# Altium integrated library Wuerth Elektronik EMC Ferrite.IntLib: 193 symbols (part 2 of 3)
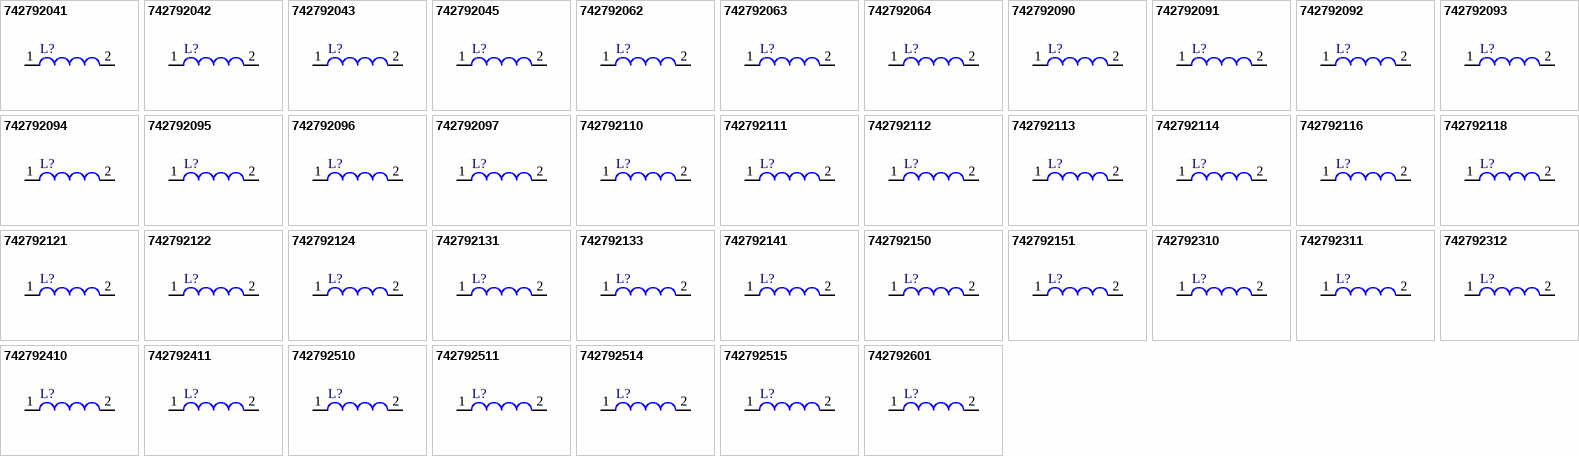
[diagram p5: symbols 742792041 to 742792601]

## 742792097
designator L?
SMD EMI Suppression Ferrite Bead WE-CBF, Z = 1500 Ohm; DatasheetVersion: Dec-2005; PackageVersion: 2005; PackageReference: SMD-0805; PackageDescription: Chip Inductor, 2-Leads, Body 2.0 x 1.2 mm; Impedance: 1500 Ohm; ComponentLink1Description: Manufacturer URL; ComponentLink1URL: http://www.we-online.com; ComponentLink2Description: Datasheet; ComponentLink2URL: http://www.we-online.de/katalog/media/pdf/742792097.pdf
footprint SMD-0805 (Chip Inductor, 2-Leads, Body 2.0x1.2x1.1 mm)
pins: 1, 2

## 742792110
designator L?
SMD EMI Suppression Ferrite Bead WE-CBF, Z = 19 Ohm; Impedance: 19 Ohm; DatasheetVersion: Dec-2005; PackageVersion: 2007; PackageReference: SMD-1206; PackageDescription: Chip Inductor, 2-Leads, Body 3.2 x 1.6 mm; ComponentLink1Description: Manufacturer URL; ComponentLink1URL: http://www.we-online.com; ComponentLink2Description: Datasheet; ComponentLink2URL: http://www.we-online.de/katalog/media/pdf/742792110.pdf
footprint SMD-1206 (Chip Inductor, 2-Leads, Body 3.2x1.6x1.3 mm)
pins: 1, 2

## 742792111
designator L?
SMD EMI Suppression Ferrite Bead WE-CBF, Z = 26 Ohm; Impedance: 26 Ohm; DatasheetVersion: Dec-2005; PackageVersion: 2007; PackageReference: SMD-1206; PackageDescription: Chip Inductor, 2-Leads, Body 3.2 x 1.6 mm; ComponentLink1Description: Manufacturer URL; ComponentLink1URL: http://www.we-online.com; ComponentLink2Description: Datasheet; ComponentLink2URL: http://www.we-online.de/katalog/media/pdf/742792111.pdf
footprint SMD-1206 (Chip Inductor, 2-Leads, Body 3.2x1.6x1.3 mm)
pins: 1, 2

## 742792112
designator L?
SMD EMI Suppression Ferrite Bead WE-CBF, Z = 31Ohm; DatasheetVersion: Dec-2005; PackageVersion: 2007; PackageReference: SMD-1206; PackageDescription: Chip Inductor, 2-Leads, Body 3.2 x 1.6 mm; Impedance: 31Ohm; ComponentLink1Description: Manufacturer URL; ComponentLink1URL: http://www.we-online.com; ComponentLink2Description: Datasheet; ComponentLink2URL: http://www.we-online.de/katalog/media/pdf/742792112.pdf
footprint SMD-1206 (Chip Inductor, 2-Leads, Body 3.2x1.6x1.3 mm)
pins: 1, 2

## 742792113
designator L?
SMD EMI Suppression Ferrite Bead WE-CBF, Z = 120 Ohm; Impedance: 120 Ohm; DatasheetVersion: Dec-2005; PackageVersion: 2007; PackageReference: SMD-1206; PackageDescription: Chip Inductor, 2-Leads, Body 3.2 x 1.6 mm; ComponentLink1Description: Manufacturer URL; ComponentLink1URL: http://www.we-online.com; ComponentLink2Description: Datasheet; ComponentLink2URL: http://www.we-online.de/katalog/media/pdf/742792113.pdf
footprint SMD-1206 (Chip Inductor, 2-Leads, Body 3.2x1.6x1.3 mm)
pins: 1, 2

## 742792114
designator L?
SMD EMI Suppression Ferrite Bead WE-CBF, Z = 50 Ohm; Impedance: 50 Ohm; DatasheetVersion: Dec-2005; PackageVersion: 2007; PackageReference: SMD-1206; PackageDescription: Chip Inductor, 2-Leads, Body 3.2 x 1.6 mm; ComponentLink1Description: Manufacturer URL; ComponentLink1URL: http://www.we-online.com; ComponentLink2Description: Datasheet; ComponentLink2URL: http://www.we-online.de/katalog/media/pdf/742792114.pdf
footprint SMD-1206 (Chip Inductor, 2-Leads, Body 3.2x1.6x1.3 mm)
pins: 1, 2

## 742792116
designator L?
SMD EMI Suppression Ferrite Bead WE-CBF, Z = 500 Ohm; Impedance: 500 Ohm; DatasheetVersion: Dec-2005; PackageVersion: 2007; PackageReference: SMD-1206; PackageDescription: Chip Inductor, 2-Leads, Body 3.2 x 1.6 mm; ComponentLink1Description: Manufacturer URL; ComponentLink1URL: http://www.we-online.com; ComponentLink2Description: Datasheet; ComponentLink2URL: http://www.we-online.de/katalog/media/pdf/742792116.pdf
footprint SMD-1206 (Chip Inductor, 2-Leads, Body 3.2x1.6x1.3 mm)
pins: 1, 2

## 742792118
designator L?
SMD EMI Suppression Ferrite Bead WE-CBF, Z = 600 Ohm; Impedance: 600 Ohm; DatasheetVersion: ver 1, May-2009; PackageVersion: 2007; PackageReference: SMD-1206; PackageDescription: Chip Inductor, 2-Leads, Body 3.2 x 1.6 mm; ComponentLink1Description: Manufacturer URL; ComponentLink1URL: http://www.we-online.com; ComponentLink2Description: Datasheet; ComponentLink2URL: http://www.we-online.de/katalog/media/pdf/742792118.pdf
footprint SMD-1206 (Chip Inductor, 2-Leads, Body 3.2x1.6x1.3 mm)
pins: 1, 2

## 742792121
designator L?
SMD EMI Suppression Ferrite Bead WE-CBF, Z = 300 Ohm; Impedance: 300 Ohm; DatasheetVersion: Dec-2005; PackageVersion: 2007; PackageReference: SMD-1206; PackageDescription: Chip Inductor, 2-Leads, Body 3.2 x 1.6 mm; ComponentLink1Description: Manufacturer URL; ComponentLink1URL: http://www.we-online.com; ComponentLink2Description: Datasheet; ComponentLink2URL: http://www.we-online.de/katalog/media/pdf/742792121.pdf
footprint SMD-1206 (Chip Inductor, 2-Leads, Body 3.2x1.6x1.3 mm)
pins: 1, 2

## 742792122
designator L?
SMD EMI Suppression Ferrite Bead WE-CBF, Z = 220 Ohm; Impedance: 220 Ohm; DatasheetVersion: Dec-2005; PackageVersion: 2007; PackageReference: SMD-1206; PackageDescription: Chip Inductor, 2-Leads, Body 3.2 x 1.6 mm; ComponentLink1Description: Manufacturer URL; ComponentLink1URL: http://www.we-online.com; ComponentLink2Description: Datasheet; ComponentLink2URL: http://www.we-online.de/katalog/media/pdf/742792122.pdf
footprint SMD-1206 (Chip Inductor, 2-Leads, Body 3.2x1.6x1.3 mm)
pins: 1, 2

## 742792124
designator L?
SMD EMI Suppression Ferrite Bead WE-CBF, Z = 470 Ohm; Impedance: 470 Ohm; DatasheetVersion: Dec-2005; PackageVersion: 2007; PackageReference: SMD-1206; PackageDescription: Chip Inductor, 2-Leads, Body 3.2 x 1.6 mm; ComponentLink1Description: Manufacturer URL; ComponentLink1URL: http://www.we-online.com; ComponentLink2Description: Datasheet; ComponentLink2URL: http://www.we-online.de/katalog/media/pdf/742792124.pdf
footprint SMD-1206 (Chip Inductor, 2-Leads, Body 3.2x1.6x1.3 mm)
pins: 1, 2

## 742792131
designator L?
SMD EMI Suppression Ferrite Bead WE-CBF, Z = 600 Ohm; Impedance: 600 Ohm; DatasheetVersion: Dec-2005; PackageVersion: 2007; PackageReference: SMD-1206; PackageDescription: Chip Inductor, 2-Leads, Body 3.2 x 1.6 mm; ComponentLink1Description: Manufacturer URL; ComponentLink1URL: http://www.we-online.com; ComponentLink2Description: Datasheet; ComponentLink2URL: http://www.we-online.de/katalog/media/pdf/742792131.pdf
footprint SMD-1206 (Chip Inductor, 2-Leads, Body 3.2x1.6x1.3 mm)
pins: 1, 2

## 742792133
designator L?
SMD EMI Suppression Ferrite Bead WE-CBF, Z = 600 Ohm; Impedance: 600 Ohm; DatasheetVersion: ver 2, Aug-2007; PackageVersion: 2007; PackageReference: SMD-1206; PackageDescription: Chip Inductor, 2-Leads, Body 3.2 x 1.6 mm; ComponentLink1Description: Manufacturer URL; ComponentLink1URL: http://www.we-online.com; ComponentLink2Description: Datasheet; ComponentLink2URL: http://www.we-online.de/katalog/media/pdf/742792133.pdf
footprint SMD-1206 (Chip Inductor, 2-Leads, Body 3.2x1.6x1.3 mm)
pins: 1, 2

## 742792141
designator L?
SMD EMI Suppression Ferrite Bead WE-CBF, Z = 1000 Ohm; DatasheetVersion: Dec-2005; PackageVersion: 2007; PackageReference: SMD-1206; PackageDescription: Chip Inductor, 2-Leads, Body 3.2 x 1.6 mm; Impedance: 1000 Ohm; ComponentLink1Description: Manufacturer URL; ComponentLink1URL: http://www.we-online.com; ComponentLink2Description: Datasheet; ComponentLink2URL: http://www.we-online.de/katalog/media/pdf/742792141.pdf
footprint SMD-1206 (Chip Inductor, 2-Leads, Body 3.2x1.6x1.3 mm)
pins: 1, 2

## 742792150
designator L?
SMD EMI Suppression Ferrite Bead WE-CBF, Z = 80 Ohm; Impedance: 80 Ohm; DatasheetVersion: ver 1, Oct-2009; PackageVersion: 2007; PackageReference: SMD-1206; PackageDescription: Chip Inductor, 2-Leads, Body 3.2 x 1.6 mm; ComponentLink1Description: Manufacturer URL; ComponentLink1URL: http://www.we-online.com; ComponentLink2Description: Datasheet; ComponentLink2URL: http://www.we-online.de/katalog/media/pdf/742792150.pdf
footprint SMD-1206 (Chip Inductor, 2-Leads, Body 3.2x1.6x1.3 mm)
pins: 1, 2

## 742792151
designator L?
SMD EMI Suppression Ferrite Bead WE-CBF, Z = 70 Ohm; Impedance: 70 Ohm; DatasheetVersion: ver 5, Mar-2007; PackageVersion: 2007; PackageReference: SMD-1206; PackageDescription: Chip Inductor, 2-Leads, Body 3.2 x 1.6 mm; ComponentLink1Description: Manufacturer URL; ComponentLink1URL: http://www.we-online.com; ComponentLink2Description: Datasheet; ComponentLink2URL: http://www.we-online.de/katalog/media/pdf/742792151.pdf
footprint SMD-1206 (Chip Inductor, 2-Leads, Body 3.2x1.6x1.3 mm)
pins: 1, 2

## 742792310
designator L?
SMD EMI Suppression Ferrite Bead WE-CBF, Z = 30 Ohm; Impedance: 30 Ohm; DatasheetVersion: Nov-2007; PackageVersion: 2007; PackageReference: SMD-1210; PackageDescription: Chip Inductor, 2-Leads, Body 3.2 x 2.5 mm; ComponentLink1Description: Manufacturer URL; ComponentLink1URL: http://www.we-online.com; ComponentLink2Description: Datasheet; ComponentLink2URL: http://www.we-online.de/katalog/media/pdf/742792310.pdf
footprint SMD-1210 (Chip Inductor, 2-Leads, Body 3.2x2.5x1.5 mm)
pins: 1, 2

## 742792311
designator L?
SMD EMI Suppression Ferrite Bead WE-CBF, Z = 52 Ohm; Impedance: 52 Ohm; DatasheetVersion: Nov-2007; PackageVersion: 2007; PackageReference: SMD-1210; PackageDescription: Chip Inductor, 2-Leads, Body 3.2 x 2.5 mm; ComponentLink1Description: Manufacturer URL; ComponentLink1URL: http://www.we-online.com; ComponentLink2Description: Datasheet; ComponentLink2URL: http://www.we-online.de/katalog/media/pdf/742792311.pdf
footprint SMD-1210 (Chip Inductor, 2-Leads, Body 3.2x2.5x1.5 mm)
pins: 1, 2

## 742792312
designator L?
SMD EMI Suppression Ferrite Bead WE-CBF, Z = 65 Ohm; Impedance: 65 Ohm; DatasheetVersion: Nov-2007; PackageVersion: 2007; PackageReference: SMD-1210; PackageDescription: Chip Inductor, 2-Leads, Body 3.2 x 2.5 mm; ComponentLink1Description: Manufacturer URL; ComponentLink1URL: http://www.we-online.com; ComponentLink2Description: Datasheet; ComponentLink2URL: http://www.we-online.de/katalog/media/pdf/742792312.pdf
footprint SMD-1210 (Chip Inductor, 2-Leads, Body 3.2x2.5x1.5 mm)
pins: 1, 2

## 742792410
designator L?
SMD EMI Suppression Ferrite Bead WE-CBF, Z = 60 Ohm; Impedance: 60 Ohm; DatasheetVersion: Dec-2005; PackageVersion: 2005; PackageReference: SMD-1806; PackageDescription: Chip Inductor, 2-Leads, Body 4.5 x 1.6 mm; ComponentLink1Description: Manufacturer URL; ComponentLink1URL: http://www.we-online.com; ComponentLink2Description: Datasheet; ComponentLink2URL: http://www.we-online.de/katalog/media/pdf/742792410.pdf
footprint SMD-1806 (Chip Inductor, 2-Leads, Body 4.5x1.6x1.8 mm)
pins: 1, 2

## 742792411
designator L?
SMD EMI Suppression Ferrite Bead WE-CBF, Z = 80 Ohm; Impedance: 80 Ohm; DatasheetVersion: Dec-2005; PackageVersion: 2005; PackageReference: SMD-1806; PackageDescription: Chip Inductor, 2-Leads, Body 4.5 x 1.6 mm; ComponentLink1Description: Manufacturer URL; ComponentLink1URL: http://www.we-online.com; ComponentLink2Description: Datasheet; ComponentLink2URL: http://www.we-online.de/katalog/media/pdf/742792411.pdf
footprint SMD-1806 (Chip Inductor, 2-Leads, Body 4.5x1.6x1.8 mm)
pins: 1, 2

## 742792510
designator L?
SMD EMI Suppression Ferrite Bead WE-CBF, Z = 70 Ohm; Impedance: 70 Ohm; DatasheetVersion: Dec-2005; PackageVersion: 2010; PackageReference: SMD-1812; PackageDescription: Chip Inductor, 2-Leads, Body 4.5 x 3.2 mm; ComponentLink1Description: Manufacturer URL; ComponentLink1URL: http://www.we-online.com; ComponentLink2Description: Datasheet; ComponentLink2URL: http://www.we-online.de/katalog/media/pdf/742792510.pdf
footprint SMD-1812 (Chip Inductor, 2-Leads, Body 4.5x3.2x1.7 mm)
pins: 1, 2

## 742792511
designator L?
SMD EMI Suppression Ferrite Bead WE-CBF, Z = 120 Ohm; Impedance: 120 Ohm; DatasheetVersion: Dec-2005; PackageVersion: 2010; PackageReference: SMD-1812; PackageDescription: Chip Inductor, 2-Leads, Body 4.5 x 3.2 mm; ComponentLink1Description: Manufacturer URL; ComponentLink1URL: http://www.we-online.com; ComponentLink2Description: Datasheet; ComponentLink2URL: http://www.we-online.de/katalog/media/pdf/742792511.pdf
footprint SMD-1812 (Chip Inductor, 2-Leads, Body 4.5x3.2x1.7 mm)
pins: 1, 2

## 742792514
designator L?
SMD EMI Suppression Ferrite Bead WE-CBF, Z = 600 Ohm; Impedance: 600 Ohm; DatasheetVersion: Feb-2007; PackageVersion: 2010; PackageReference: SMD-1812; PackageDescription: Chip Inductor, 2-Leads, Body 4.5 x 3.2 mm; ComponentLink1Description: Manufacturer URL; ComponentLink1URL: http://www.we-online.com; ComponentLink2Description: Datasheet; ComponentLink2URL: http://www.we-online.de/katalog/media/pdf/742792514.pdf
footprint SMD-1812 (Chip Inductor, 2-Leads, Body 4.5x3.2x1.7 mm)
pins: 1, 2

## 742792515
designator L?
SMD EMI Suppression Ferrite Bead WE-CBF, Z = 530 Ohm; Impedance: 530 Ohm; DatasheetVersion: ver 5, Jan-2010; PackageVersion: 2010; PackageReference: SMD-1812; PackageDescription: Chip Inductor, 2-Leads, Body 4.5 x 3.2 mm; ComponentLink1Description: Manufacturer URL; ComponentLink1URL: http://www.we-online.com; ComponentLink2Description: Datasheet; ComponentLink2URL: http://www.we-online.de/katalog/media/pdf/742792515.pdf
footprint SMD-1812 (Chip Inductor, 2-Leads, Body 4.5x3.2x1.7 mm)
pins: 1, 2

## 742792601
designator L?
SMD EMI Suppression Ferrite Bead WE-CBF, Z = 30 Ohm; Impedance: 30 Ohm; DatasheetVersion: Dec-2005; PackageVersion: 2009; PackageReference: SMD-0603; PackageDescription: Chip Inductor, 2-Leads, Body 1.6 x 0.8 mm; ComponentLink1Description: Manufacturer URL; ComponentLink1URL: http://www.we-online.com; ComponentLink2Description: Datasheet; ComponentLink2URL: http://www.we-online.de/katalog/media/pdf/742792601.pdf
footprint SMD-0603 (Chip Inductor, 2-Leads, Body 1.6x0.8x0.95 mm)
pins: 1, 2

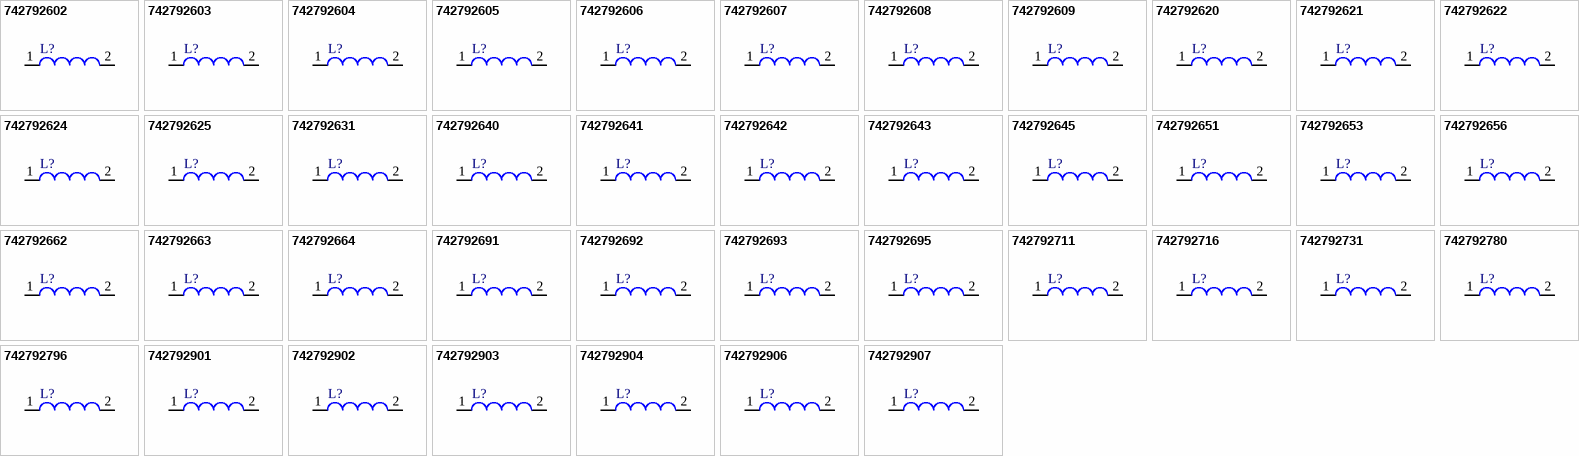
[diagram p3: symbols 742792602 to 742792907]

## 742792602
designator L?
SMD EMI Suppression Ferrite Bead WE-CBF, Z = 60 Ohm; Impedance: 60 Ohm; DatasheetVersion: Dec-2005; PackageVersion: 2009; PackageReference: SMD-0603; PackageDescription: Chip Inductor, 2-Leads, Body 1.6 x 0.8 mm; ComponentLink1Description: Manufacturer URL; ComponentLink1URL: http://www.we-online.com; ComponentLink2Description: Datasheet; ComponentLink2URL: http://www.we-online.de/katalog/media/pdf/742792602.pdf
footprint SMD-0603 (Chip Inductor, 2-Leads, Body 1.6x0.8x0.95 mm)
pins: 1, 2

## 742792603
designator L?
SMD EMI Suppression Ferrite Bead WE-CBF, Z = 28 Ohm; Impedance: 28 Ohm; DatasheetVersion: Dec-2005; PackageVersion: 2009; PackageReference: SMD-0603; PackageDescription: Chip Inductor, 2-Leads, Body 1.6 x 0.8 mm; ComponentLink1Description: Manufacturer URL; ComponentLink1URL: http://www.we-online.com; ComponentLink2Description: Datasheet; ComponentLink2URL: http://www.we-online.de/katalog/media/pdf/742792603.pdf
footprint SMD-0603 (Chip Inductor, 2-Leads, Body 1.6x0.8x0.95 mm)
pins: 1, 2

## 742792604
designator L?
SMD EMI Suppression Ferrite Bead WE-CBF, Z = 22 Ohm; Impedance: 22 Ohm; DatasheetVersion: ver 5, Feb-2007; PackageVersion: 2009; PackageReference: SMD-0603; PackageDescription: Chip Inductor, 2-Leads, Body 1.6 x 0.8 mm; ComponentLink1Description: Manufacturer URL; ComponentLink1URL: http://www.we-online.com; ComponentLink2Description: Datasheet; ComponentLink2URL: http://www.we-online.de/katalog/media/pdf/742792604.pdf
footprint SMD-0603 (Chip Inductor, 2-Leads, Body 1.6x0.8x0.95 mm)
pins: 1, 2

## 742792605
designator L?
SMD EMI Suppression Ferrite Bead WE-CBF, Z = 33 Ohm; Impedance: 15 Ohm; DatasheetVersion: Dec-2005; PackageVersion: 2009; PackageReference: SMD-0603; PackageDescription: Chip Inductor, 2-Leads, Body 1.6 x 0.8 mm; ComponentLink1Description: Manufacturer URL; ComponentLink1URL: http://www.we-online.com; ComponentLink2Description: Datasheet; ComponentLink2URL: http://www.we-online.de/katalog/media/pdf/742792605.pdf
footprint SMD-0603 (Chip Inductor, 2-Leads, Body 1.6x0.8x0.95 mm)
pins: 1, 2

## 742792606
designator L?
SMD EMI Suppression Ferrite Bead WE-CBF, Z = 120 Ohm; Impedance: 120 Ohm; DatasheetVersion: Dec-2005; PackageVersion: 2009; PackageReference: SMD-0603; PackageDescription: Chip Inductor, 2-Leads, Body 1.6 x 0.8 mm; ComponentLink1Description: Manufacturer URL; ComponentLink1URL: http://www.we-online.com; ComponentLink2Description: Datasheet; ComponentLink2URL: http://www.we-online.de/katalog/media/pdf/742792606.pdf
footprint SMD-0603 (Chip Inductor, 2-Leads, Body 1.6x0.8x0.95 mm)
pins: 1, 2

## 742792607
designator L?
SMD EMI Suppression Ferrite Bead WE-CBF, Z = 68 Ohm; Impedance: 68 Ohm; DatasheetVersion: Dec-2005; PackageVersion: 2009; PackageReference: SMD-0603; PackageDescription: Chip Inductor, 2-Leads, Body 1.6 x 0.8 mm; ComponentLink1Description: Manufacturer URL; ComponentLink1URL: http://www.we-online.com; ComponentLink2Description: Datasheet; ComponentLink2URL: http://www.we-online.de/katalog/media/pdf/742792607.pdf
footprint SMD-0603 (Chip Inductor, 2-Leads, Body 1.6x0.8x0.95 mm)
pins: 1, 2

## 742792608
designator L?
SMD EMI Suppression Ferrite Bead WE-CBF, Z = 47 Ohm; Impedance: 47 Ohm; DatasheetVersion: Dec-2005; PackageVersion: 2009; PackageReference: SMD-0603; PackageDescription: Chip Inductor, 2-Leads, Body 1.6 x 0.8 mm; ComponentLink1Description: Manufacturer URL; ComponentLink1URL: http://www.we-online.com; ComponentLink2Description: Datasheet; ComponentLink2URL: http://www.we-online.de/katalog/media/pdf/742792608.pdf
footprint SMD-0603 (Chip Inductor, 2-Leads, Body 1.6x0.8x0.95 mm)
pins: 1, 2

## 742792609
designator L?
SMD EMI Suppression Ferrite Bead WE-CBF, Z = 30 Ohm; Impedance: 30 Ohm; DatasheetVersion: Dec-2005; PackageVersion: 2009; PackageReference: SMD-0603; PackageDescription: Chip Inductor, 2-Leads, Body 1.6 x 0.8 mm; ComponentLink1Description: Manufacturer URL; ComponentLink1URL: http://www.we-online.com; ComponentLink2Description: Datasheet; ComponentLink2URL: http://www.we-online.de/katalog/media/pdf/742792609.pdf
footprint SMD-0603 (Chip Inductor, 2-Leads, Body 1.6x0.8x0.95 mm)
pins: 1, 2

## 742792620
designator L?
SMD EMI Suppression Ferrite Bead WE-CBF, Z = 100 Ohm; Impedance: 100 Ohm; DatasheetVersion: ver 2, Aug-2005; PackageVersion: 2009; PackageReference: SMD-0603; PackageDescription: Chip Inductor, 2-Leads, Body 1.6 x 0.8 mm; ComponentLink1Description: Manufacturer URL; ComponentLink1URL: http://www.we-online.com; ComponentLink2Description: Datasheet; ComponentLink2URL: http://www.we-online.de/katalog/media/pdf/742792620.pdf
footprint SMD-0603 (Chip Inductor, 2-Leads, Body 1.6x0.8x0.95 mm)
pins: 1, 2

## 742792621
designator L?
SMD EMI Suppression Ferrite Bead WE-CBF, Z = 140 Ohm; Impedance: 140 Ohm; DatasheetVersion: Dec-2005; PackageVersion: 2009; PackageReference: SMD-0603; PackageDescription: Chip Inductor, 2-Leads, Body 1.6 x 0.8 mm; ComponentLink1Description: Manufacturer URL; ComponentLink1URL: http://www.we-online.com; ComponentLink2Description: Datasheet; ComponentLink2URL: http://www.we-online.de/katalog/media/pdf/742792621.pdf
footprint SMD-0603 (Chip Inductor, 2-Leads, Body 1.6x0.8x0.95 mm)
pins: 1, 2

## 742792622
designator L?
SMD EMI Suppression Ferrite Bead WE-CBF, Z = 180 Ohm; Impedance: 180 Ohm; DatasheetVersion: Dec-2005; PackageVersion: 2009; PackageReference: SMD-0603; PackageDescription: Chip Inductor, 2-Leads, Body 1.6 x 0.8 mm; ComponentLink1Description: Manufacturer URL; ComponentLink1URL: http://www.we-online.com; ComponentLink2Description: Datasheet; ComponentLink2URL: http://www.we-online.de/katalog/media/pdf/74279222.pdf
footprint SMD-0603 (Chip Inductor, 2-Leads, Body 1.6x0.8x0.95 mm)
pins: 1, 2

## 742792624
designator L?
SMD EMI Suppression Ferrite Bead WE-CBF, Z = 180 Ohm; Impedance: 180 Ohm; DatasheetVersion: ver 1, Jun-2008; PackageVersion: 2009; PackageReference: SMD-0603; PackageDescription: Chip Inductor, 2-Leads, Body 1.6 x 0.8 mm; ComponentLink1Description: Manufacturer URL; ComponentLink1URL: http://www.we-online.com; ComponentLink2Description: Datasheet; ComponentLink2URL: http://www.we-online.de/katalog/media/pdf/742792624.pdf
footprint SMD-0603 (Chip Inductor, 2-Leads, Body 1.6x0.8x0.95 mm)
pins: 1, 2

## 742792625
designator L?
SMD EMI Suppression Ferrite Bead WE-CBF, Z = 120 Ohm; Impedance: 120 Ohm; DatasheetVersion: ver 1, Aug-2009; PackageVersion: 2009; PackageReference: SMD-0603; PackageDescription: Chip Inductor, 2-Leads, Body 1.6 x 0.8 mm; ComponentLink1Description: Manufacturer URL; ComponentLink1URL: http://www.we-online.com; ComponentLink2Description: Datasheet; ComponentLink2URL: http://www.we-online.de/katalog/media/pdf/742792625.pdf
footprint SMD-0603 (Chip Inductor, 2-Leads, Body 1.6x0.8x0.95 mm)
pins: 1, 2

## 742792631
designator L?
SMD EMI Suppression Ferrite Bead WE-CBF, Z = 240 Ohm; Impedance: 240 Ohm; DatasheetVersion: Dec-2005; PackageVersion: 2009; PackageReference: SMD-0603; PackageDescription: Chip Inductor, 2-Leads, Body 1.6 x 0.8 mm; ComponentLink1Description: Manufacturer URL; ComponentLink1URL: http://www.we-online.com; ComponentLink2Description: Datasheet; ComponentLink2URL: http://www.we-online.de/katalog/media/pdf/742792631.pdf
footprint SMD-0603 (Chip Inductor, 2-Leads, Body 1.6x0.8x0.95 mm)
pins: 1, 2

## 742792640
designator L?
SMD EMI Suppression Ferrite Bead WE-CBF, Z = 300 Ohm; Impedance: 300 Ohm; DatasheetVersion: Dec-2005; PackageVersion: 2009; PackageReference: SMD-0603; PackageDescription: Chip Inductor, 2-Leads, Body 1.6 x 0.8 mm; ComponentLink1Description: Manufacturer URL; ComponentLink1URL: http://www.we-online.com; ComponentLink2Description: Datasheet; ComponentLink2URL: http://www.we-online.de/katalog/media/pdf/742792640.pdf
footprint SMD-0603 (Chip Inductor, 2-Leads, Body 1.6x0.8x0.95 mm)
pins: 1, 2

## 742792641
designator L?
SMD EMI Suppression Ferrite Bead WE-CBF, Z = 300 Ohm; Impedance: 300 Ohm; DatasheetVersion: Dec-2005; PackageVersion: 2009; PackageReference: SMD-0603; PackageDescription: Chip Inductor, 2-Leads, Body 1.6 x 0.8 mm; ComponentLink1Description: Manufacturer URL; ComponentLink1URL: http://www.we-online.com; ComponentLink2Description: Datasheet; ComponentLink2URL: http://www.we-online.de/katalog/media/pdf/742792641.pdf
footprint SMD-0603 (Chip Inductor, 2-Leads, Body 1.6x0.8x0.95 mm)
pins: 1, 2

## 742792642
designator L?
SMD EMI Suppression Ferrite Bead WE-CBF, Z = 470 Ohm; Impedance: 470 Ohm; DatasheetVersion: Dec-2005; PackageVersion: 2009; PackageReference: SMD-0603; PackageDescription: Chip Inductor, 2-Leads, Body 1.6 x 0.8 mm; ComponentLink1Description: Manufacturer URL; ComponentLink1URL: http://www.we-online.com; ComponentLink2Description: Datasheet; ComponentLink2URL: http://www.we-online.de/katalog/media/pdf/742792642.pdf
footprint SMD-0603 (Chip Inductor, 2-Leads, Body 1.6x0.8x0.95 mm)
pins: 1, 2

## 742792643
designator L?
SMD EMI Suppression Ferrite Bead WE-CBF, Z = 470 Ohm; Impedance: 470 Ohm; DatasheetVersion: Dec-2005; PackageVersion: 2009; PackageReference: SMD-0603; PackageDescription: Chip Inductor, 2-Leads, Body 1.6 x 0.8 mm; ComponentLink1Description: Manufacturer URL; ComponentLink1URL: http://www.we-online.com; ComponentLink2Description: Datasheet; ComponentLink2URL: http://www.we-online.de/katalog/media/pdf/742792643.pdf
footprint SMD-0603 (Chip Inductor, 2-Leads, Body 1.6x0.8x0.95 mm)
pins: 1, 2

## 742792645
designator L?
SMD EMI Suppression Ferrite Bead WE-CBF, Z = 470 Ohm; Impedance: 470 Ohm; DatasheetVersion: ver 1, Aug-2009; PackageVersion: 2009; PackageReference: SMD-0603; PackageDescription: Chip Inductor, 2-Leads, Body 1.6 x 0.8 mm; ComponentLink1Description: Manufacturer URL; ComponentLink1URL: http://www.we-online.com; ComponentLink2Description: Datasheet; ComponentLink2URL: http://www.we-online.de/katalog/media/pdf/742792645.pdf
footprint SMD-0603 (Chip Inductor, 2-Leads, Body 1.6x0.8x0.95 mm)
pins: 1, 2

## 742792651
designator L?
SMD EMI Suppression Ferrite Bead WE-CBF, Z = 600 Ohm; Impedance: 600 Ohm; DatasheetVersion: Dec-2005; PackageVersion: 2009; PackageReference: SMD-0603; PackageDescription: Chip Inductor, 2-Leads, Body 1.6 x 0.8 mm; ComponentLink1Description: Manufacturer URL; ComponentLink1URL: http://www.we-online.com; ComponentLink2Description: Datasheet; ComponentLink2URL: http://www.we-online.de/katalog/media/pdf/742792651.pdf
footprint SMD-0603 (Chip Inductor, 2-Leads, Body 1.6x0.8x0.95 mm)
pins: 1, 2

## 742792653
designator L?
SMD EMI Suppression Ferrite Bead WE-CBF, Z = 600 Ohm; Impedance: 600 Ohm; DatasheetVersion: Dec-2005; PackageVersion: 2009; PackageReference: SMD-0603; PackageDescription: Chip Inductor, 2-Leads, Body 1.6 x 0.8 mm; ComponentLink1Description: Manufacturer URL; ComponentLink1URL: http://www.we-online.com; ComponentLink2Description: Datasheet; ComponentLink2URL: http://www.we-online.de/katalog/media/pdf/742792653.pdf
footprint SMD-0603 (Chip Inductor, 2-Leads, Body 1.6x0.8x0.95 mm)
pins: 1, 2

## 742792656
designator L?
SMD EMI Suppression Ferrite Bead WE-CBF, Z = 750 Ohm; Impedance: 750 Ohm; DatasheetVersion: Dec-2005; PackageVersion: 2009; PackageReference: SMD-0603; PackageDescription: Chip Inductor, 2-Leads, Body 1.6 x 0.8 mm; ComponentLink1Description: Manufacturer URL; ComponentLink1URL: http://www.we-online.com; ComponentLink2Description: Datasheet; ComponentLink2URL: http://www.we-online.de/katalog/media/pdf/742792656.pdf
footprint SMD-0603 (Chip Inductor, 2-Leads, Body 1.6x0.8x0.95 mm)
pins: 1, 2

## 742792662
designator L?
SMD EMI Suppression Ferrite Bead WE-CBF, Z = 1000 Ohm; DatasheetVersion: ver 1, Mar-2010; PackageVersion: 2009; PackageReference: SMD-0603; PackageDescription: Chip Inductor, 2-Leads, Body 1.6 x 0.8 mm; Impedance: 1000 Ohm; ComponentLink1Description: Manufacturer URL; ComponentLink1URL: http://www.we-online.com; ComponentLink2Description: Datasheet; ComponentLink2URL: http://www.we-online.de/katalog/media/pdf/742792662.pdf
footprint SMD-0603 (Chip Inductor, 2-Leads, Body 1.6x0.8x0.95 mm)
pins: 1, 2

## 742792663
designator L?
SMD EMI Suppression Ferrite Bead WE-CBF, Z = 1000 Ohm; DatasheetVersion: Dec-2005; PackageVersion: 2009; PackageReference: SMD-0603; PackageDescription: Chip Inductor, 2-Leads, Body 1.6 x 0.8 mm; Impedance: 1000 Ohm; ComponentLink1Description: Manufacturer URL; ComponentLink1URL: http://www.we-online.com; ComponentLink2Description: Datasheet; ComponentLink2URL: http://www.we-online.de/katalog/media/pdf/742792663.pdf
footprint SMD-0603 (Chip Inductor, 2-Leads, Body 1.6x0.8x0.95 mm)
pins: 1, 2

## 742792664
designator L?
SMD EMI Suppression Ferrite Bead WE-CBF, Z = 1000 Ohm; DatasheetVersion: ver 2, Jul-2006; PackageVersion: 2009; PackageReference: SMD-0603; PackageDescription: Chip Inductor, 2-Leads, Body 1.6 x 0.8 mm; Impedance: 1000 Ohm; ComponentLink1Description: Manufacturer URL; ComponentLink1URL: http://www.we-online.com; ComponentLink2Description: Datasheet; ComponentLink2URL: http://www.we-online.de/katalog/media/pdf/742792664.pdf
footprint SMD-0603 (Chip Inductor, 2-Leads, Body 1.6x0.8x0.95 mm)
pins: 1, 2

## 742792691
designator L?
SMD EMI Suppression Ferrite Bead WE-CBF, Z = 1500 Ohm; DatasheetVersion: Dec-2005; PackageVersion: 2009; PackageReference: SMD-0603; PackageDescription: Chip Inductor, 2-Leads, Body 1.6 x 0.8 mm; Impedance: 1500 Ohm; ComponentLink1Description: Manufacturer URL; ComponentLink1URL: http://www.we-online.com; ComponentLink2Description: Datasheet; ComponentLink2URL: http://www.we-online.de/katalog/media/pdf/742792691.pdf
footprint SMD-0603 (Chip Inductor, 2-Leads, Body 1.6x0.8x0.95 mm)
pins: 1, 2

## 742792692
designator L?
SMD EMI Suppression Ferrite Bead WE-CBF, Z = 1800 Ohm; DatasheetVersion: Dec-2005; PackageVersion: 2009; PackageReference: SMD-0603; PackageDescription: Chip Inductor, 2-Leads, Body 1.6 x 0.8 mm; Impedance: 1800 Ohm; ComponentLink1Description: Manufacturer URL; ComponentLink1URL: http://www.we-online.com; ComponentLink2Description: Datasheet; ComponentLink2URL: http://www.we-online.de/katalog/media/pdf/742792692.pdf
footprint SMD-0603 (Chip Inductor, 2-Leads, Body 1.6x0.8x0.95 mm)
pins: 1, 2

## 742792693
designator L?
SMD EMI Suppression Ferrite Bead WE-CBF, Z = 2200 Ohm; DatasheetVersion: Dec-2005; PackageVersion: 2009; PackageReference: SMD-0603; PackageDescription: Chip Inductor, 2-Leads, Body 1.6 x 0.8 mm; Impedance: 2200 Ohm; ComponentLink1Description: Manufacturer URL; ComponentLink1URL: http://www.we-online.com; ComponentLink2Description: Datasheet; ComponentLink2URL: http://www.we-online.de/katalog/media/pdf/742792693.pdf
footprint SMD-0603 (Chip Inductor, 2-Leads, Body 1.6x0.8x0.95 mm)
pins: 1, 2

## 742792695
designator L?
SMD EMI Suppression Ferrite Bead WE-CBF, Z = 2500 Ohm; DatasheetVersion: ver 2, Aug-2007; PackageVersion: 2009; PackageReference: SMD-0603; PackageDescription: Chip Inductor, 2-Leads, Body 1.6 x 0.8 mm; Impedance: 2500 Ohm; ComponentLink1Description: Manufacturer URL; ComponentLink1URL: http://www.we-online.com; ComponentLink2Description: Datasheet; ComponentLink2URL: http://www.we-online.de/katalog/media/pdf/742792695.pdf
footprint SMD-0603 (Chip Inductor, 2-Leads, Body 1.6x0.8x0.95 mm)
pins: 1, 2

## 742792711
designator L?
SMD EMI Suppression Ferrite Bead WE-CBF, Z = 100 Ohm; Impedance: 100 Ohm; DatasheetVersion: ver 1, Jul-2009; PackageVersion: 2009; PackageReference: SMD-0402; PackageDescription: Chip Inductor, 2-Leads, Body 1.0 x 0.5 mm; ComponentLink1Description: Manufacturer URL; ComponentLink1URL: http://www.we-online.com; ComponentLink2Description: Datasheet; ComponentLink2URL: http://www.we-online.de/katalog/media/pdf/742792711.pdf
footprint SMD-0402 (Chip Inductor, 2-Leads, Body 1.0x0.5x0.6 mm)
pins: 1, 2

## 742792716
designator L?
SMD EMI Suppression Ferrite Bead WE-CBF, Z = 60 Ohm; Impedance: 60 Ohm; DatasheetVersion: ver 1, Jul-2009; PackageVersion: 2009; PackageReference: SMD-0402; PackageDescription: Chip Inductor, 2-Leads, Body 1.0 x 0.5 mm; ComponentLink1Description: Manufacturer URL; ComponentLink1URL: http://www.we-online.com; ComponentLink2Description: Datasheet; ComponentLink2URL: http://www.we-online.de/katalog/media/pdf/742792716.pdf
footprint SMD-0402 (Chip Inductor, 2-Leads, Body 1.0x0.5x0.6 mm)
pins: 1, 2

## 742792731
designator L?
SMD EMI Suppression Ferrite Bead WE-CBF, Z = 100 Ohm; Impedance: 100 Ohm; DatasheetVersion: ver 1, Jul-2009; PackageVersion: 2009; PackageReference: SMD-0402; PackageDescription: Chip Inductor, 2-Leads, Body 1.0 x 0.5 mm; ComponentLink1Description: Manufacturer URL; ComponentLink1URL: http://www.we-online.com; ComponentLink2Description: Datasheet; ComponentLink2URL: http://www.we-online.de/katalog/media/pdf/742792731.pdf
footprint SMD-0402 (Chip Inductor, 2-Leads, Body 1.0x0.5x0.6 mm)
pins: 1, 2

## 742792780
designator L?
SMD EMI Suppression Ferrite Bead WE-CBF, Z = 220 Ohm; Impedance: 220 Ohm; DatasheetVersion: ver 4, Jul-2009; PackageVersion: 2009; PackageReference: SMD-0402; PackageDescription: Chip Inductor, 2-Leads, Body 1.0 x 0.5 mm; ComponentLink1Description: Manufacturer URL; ComponentLink1URL: http://www.we-online.com; ComponentLink2Description: Datasheet; ComponentLink2URL: http://www.we-online.de/katalog/media/pdf/742792780.pdf
footprint SMD-0402 (Chip Inductor, 2-Leads, Body 1.0x0.5x0.6 mm)
pins: 1, 2

## 742792796
designator L?
SMD EMI Suppression Ferrite Bead WE-CBF, Z = 1000 Ohm; DatasheetVersion: ver 2, Jul-2009; PackageVersion: 2009; PackageReference: SMD-0402; PackageDescription: Chip Inductor, 2-Leads, Body 1.0 x 0.5 mm; Impedance: 1000 Ohm; ComponentLink1Description: Manufacturer URL; ComponentLink1URL: http://www.we-online.com; ComponentLink2Description: Datasheet; ComponentLink2URL: http://www.we-online.de/katalog/media/pdf/742792796.pdf
footprint SMD-0402 (Chip Inductor, 2-Leads, Body 1.0x0.5x0.6 mm)
pins: 1, 2

## 742792901
designator L?
SMD EMI Suppression Power Ferrite WE-PF, Z = 2900 Ohm; DatasheetVersion: ver 6, Apr-2007; PackageVersion: 2007; PackageReference: WE-PF; PackageDescription: Inductor, 2-Leads, Body 12.0 x 12.0 mm; Impedance: 2900 Ohm; ComponentLink1Description: Manufacturer URL; ComponentLink1URL: http://www.we-online.com; ComponentLink2Description: Datasheet; ComponentLink2URL: http://www.we-online.de/katalog/media/pdf/742792901.pdf
footprint WE-PF (Inductor, 2-Leads, Body 12.0x12.0x8 mm)
pins: 1, 2

## 742792902
designator L?
SMD EMI Suppression Power Ferrite WE-PF, Z = 5000 Ohm; DatasheetVersion: ver 6, Apr-2007; PackageVersion: 2007; PackageReference: WE-PF; PackageDescription: Inductor, 2-Leads, Body 12.0 x 12.0 mm; Impedance: 5000 Ohm; ComponentLink1Description: Manufacturer URL; ComponentLink1URL: http://www.we-online.com; ComponentLink2Description: Datasheet; ComponentLink2URL: http://www.we-online.de/katalog/media/pdf/742792902.pdf
footprint WE-PF (Inductor, 2-Leads, Body 12.0x12.0x8 mm)
pins: 1, 2

## 742792903
designator L?
SMD EMI Suppression Power Ferrite WE-PF, Z = 6000 Ohm; DatasheetVersion: ver 6, Apr-2007; PackageVersion: 2007; PackageReference: WE-PF; PackageDescription: Inductor, 2-Leads, Body 12.0 x 12.0 mm; Impedance: 6000 Ohm; ComponentLink1Description: Manufacturer URL; ComponentLink1URL: http://www.we-online.com; ComponentLink2Description: Datasheet; ComponentLink2URL: http://www.we-online.de/katalog/media/pdf/742792903.pdf
footprint WE-PF (Inductor, 2-Leads, Body 12.0x12.0x8 mm)
pins: 1, 2

## 742792904
designator L?
SMD EMI Suppression Power Ferrite WE-PF, Z = 7000 Ohm; DatasheetVersion: ver 6, Apr-2007; PackageVersion: 2007; PackageReference: WE-PF; PackageDescription: Inductor, 2-Leads, Body 12.0 x 12.0 mm; Impedance: 7000 Ohm; ComponentLink1Description: Manufacturer URL; ComponentLink1URL: http://www.we-online.com; ComponentLink2Description: Datasheet; ComponentLink2URL: http://www.we-online.de/katalog/media/pdf/742792904.pdf
footprint WE-PF (Inductor, 2-Leads, Body 12.0x12.0x8 mm)
pins: 1, 2

## 742792906
designator L?
SMD EMI Suppression Power Ferrite WE-PF, Z = 9000 Ohm; DatasheetVersion: ver 6, Apr-2007; PackageVersion: 2007; PackageReference: WE-PF; PackageDescription: Inductor, 2-Leads, Body 12.0 x 12.0 mm; Impedance: 9000 Ohm; ComponentLink1Description: Manufacturer URL; ComponentLink1URL: http://www.we-online.com; ComponentLink2Description: Datasheet; ComponentLink2URL: http://www.we-online.de/katalog/media/pdf/742792906.pdf
footprint WE-PF (Inductor, 2-Leads, Body 12.0x12.0x8 mm)
pins: 1, 2

## 742792907
designator L?
SMD EMI Suppression Power Ferrite WE-PF, Z = 7500 Ohm; DatasheetVersion: ver 6, Apr-2007; PackageVersion: 2007; PackageReference: WE-PF; PackageDescription: Inductor, 2-Leads, Body 12.0 x 12.0 mm; Impedance: 7500 Ohm; ComponentLink1Description: Manufacturer URL; ComponentLink1URL: http://www.we-online.com; ComponentLink2Description: Datasheet; ComponentLink2URL: http://www.we-online.de/katalog/media/pdf/742792907.pdf
footprint WE-PF (Inductor, 2-Leads, Body 12.0x12.0x8 mm)
pins: 1, 2

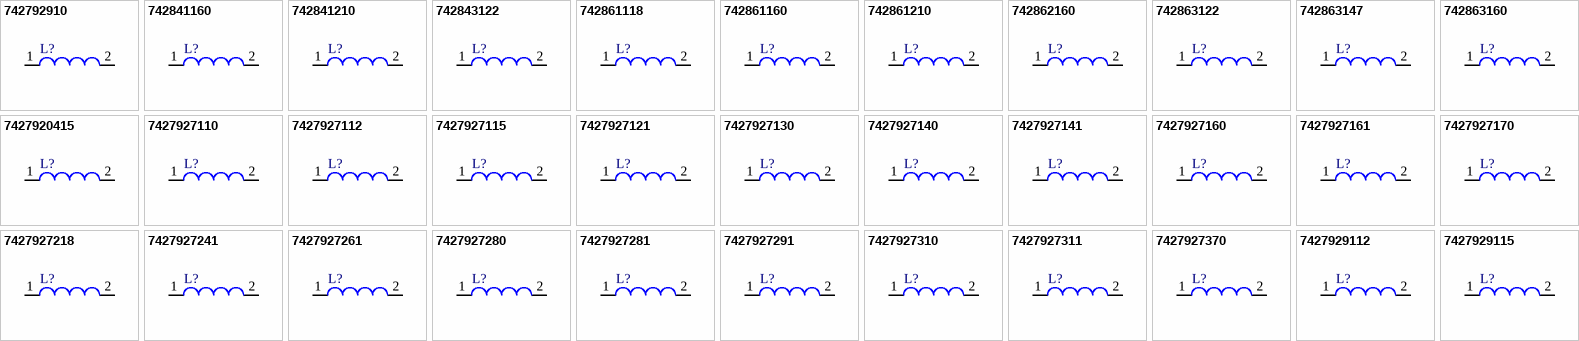
[diagram p4: symbols 742792910 to 7427929115]

## 742792910
designator L?
SMD EMI Suppression Power Ferrite WE-PF, Z = 8000 Ohm; DatasheetVersion: ver 6, Apr-2007; PackageVersion: 2007; PackageReference: WE-PF; PackageDescription: Inductor, 2-Leads, Body 12.0 x 12.0 mm; Impedance: 8000 Ohm; ComponentLink1Description: Manufacturer URL; ComponentLink1URL: http://www.we-online.com; ComponentLink2Description: Datasheet; ComponentLink2URL: http://www.we-online.de/katalog/media/pdf/742792910.pdf
footprint WE-PF (Inductor, 2-Leads, Body 12.0x12.0x8 mm)
pins: 1, 2

## 742841160
designator L?
SMD EMI Suppression Ferrite Bead WE-CBF HF, Z = 600 Ohm; Impedance: 600 Ohm; DatasheetVersion: ver 2, Aug-2009; PackageVersion: 2009; PackageReference: SMD-0402; PackageDescription: Chip Inductor, 2-Leads, Body 1.0 x 0.5 mm; ComponentLink1Description: Manufacturer URL; ComponentLink1URL: http://www.we-online.com; ComponentLink2Description: Datasheet; ComponentLink2URL: http://www.we-online.de/katalog/media/pdf/742841160.pdf
footprint SMD-0402 (Chip Inductor, 2-Leads, Body 1.0x0.5x0.6 mm)
pins: 1, 2

## 742841210
designator L?
SMD EMI Suppression Ferrite Bead WE-CBF HF, Z = 1000 Ohm; DatasheetVersion: ver 2, Aug-2009; PackageVersion: 2009; PackageReference: SMD-0402; PackageDescription: Chip Inductor, 2-Leads, Body 1.0 x 0.5 mm; Impedance: 1000 Ohm; ComponentLink1Description: Manufacturer URL; ComponentLink1URL: http://www.we-online.com; ComponentLink2Description: Datasheet; ComponentLink2URL: http://www.we-online.de/katalog/media/pdf/742841210.pdf
footprint SMD-0402 (Chip Inductor, 2-Leads, Body 1.0x0.5x0.6 mm)
pins: 1, 2

## 742843122
designator L?
SMD EMI Suppression Ferrite Bead WE-CBF HF, Z = 220 Ohm; Impedance: 220 Ohm; DatasheetVersion: ver 2, Aug-2009; PackageVersion: 2009; PackageReference: SMD-0402; PackageDescription: Chip Inductor, 2-Leads, Body 1.0 x 0.5 mm; ComponentLink1Description: Manufacturer URL; ComponentLink1URL: http://www.we-online.com; ComponentLink2Description: Datasheet; ComponentLink2URL: http://www.we-online.de/katalog/media/pdf/742843122.pdf
footprint SMD-0402 (Chip Inductor, 2-Leads, Body 1.0x0.5x0.6 mm)
pins: 1, 2

## 742861118
designator L?
SMD EMI Suppression Ferrite Bead WE-CBF HF, Z = 180 Ohm; Impedance: 180 Ohm; DatasheetVersion: ver 2, Aug-2009; PackageVersion: 2009; PackageReference: SMD-0603; PackageDescription: Chip Inductor, 2-Leads, Body 1.6 x 0.8 mm; ComponentLink1Description: Manufacturer URL; ComponentLink1URL: http://www.we-online.com; ComponentLink2Description: Datasheet; ComponentLink2URL: http://www.we-online.de/katalog/media/pdf/742861118.pdf
footprint SMD-0603 (Chip Inductor, 2-Leads, Body 1.6x0.8x0.95 mm)
pins: 1, 2

## 742861160
designator L?
SMD EMI Suppression Ferrite Bead WE-CBF HF, Z = 600 Ohm; Impedance: 600 Ohm; DatasheetVersion: ver 3, Oct-2009; PackageVersion: 2009; PackageReference: SMD-0603; PackageDescription: Chip Inductor, 2-Leads, Body 1.6 x 0.8 mm; ComponentLink1Description: Manufacturer URL; ComponentLink1URL: http://www.we-online.com; ComponentLink2Description: Datasheet; ComponentLink2URL: http://www.we-online.de/katalog/media/pdf/742861160.pdf
footprint SMD-0603 (Chip Inductor, 2-Leads, Body 1.6x0.8x0.95 mm)
pins: 1, 2

## 742861210
designator L?
SMD EMI Suppression Ferrite Bead WE-CBF HF, Z = 1000 Ohm; DatasheetVersion: ver 2, Aug-2009; PackageVersion: 2009; PackageReference: SMD-0603; PackageDescription: Chip Inductor, 2-Leads, Body 1.6 x 0.8 mm; Impedance: 1000 Ohm; ComponentLink1Description: Manufacturer URL; ComponentLink1URL: http://www.we-online.com; ComponentLink2Description: Datasheet; ComponentLink2URL: http://www.we-online.de/katalog/media/pdf/742861210.pdf
footprint SMD-0603 (Chip Inductor, 2-Leads, Body 1.6x0.8x0.95 mm)
pins: 1, 2

## 742862160
designator L?
SMD EMI Suppression Ferrite Bead WE-CBF HF, Z = 600 Ohm; Impedance: 600 Ohm; DatasheetVersion: ver 2, Aug-2009; PackageVersion: 2009; PackageReference: SMD-0603; PackageDescription: Chip Inductor, 2-Leads, Body 1.6 x 0.8 mm; ComponentLink1Description: Manufacturer URL; ComponentLink1URL: http://www.we-online.com; ComponentLink2Description: Datasheet; ComponentLink2URL: http://www.we-online.de/katalog/media/pdf/742862160.pdf
footprint SMD-0603 (Chip Inductor, 2-Leads, Body 1.6x0.8x0.95 mm)
pins: 1, 2

## 742863122
designator L?
SMD EMI Suppression Ferrite Bead WE-CBF HF, Z = 220 Ohm; Impedance: 220 Ohm; DatasheetVersion: ver 2, Aug-2009; PackageVersion: 2009; PackageReference: SMD-0603; PackageDescription: Chip Inductor, 2-Leads, Body 1.6 x 0.8 mm; ComponentLink1Description: Manufacturer URL; ComponentLink1URL: http://www.we-online.com; ComponentLink2Description: Datasheet; ComponentLink2URL: http://www.we-online.de/katalog/media/pdf/742863122.pdf
footprint SMD-0603 (Chip Inductor, 2-Leads, Body 1.6x0.8x0.95 mm)
pins: 1, 2

## 742863147
designator L?
SMD EMI Suppression Ferrite Bead WE-CBF HF, Z = 470 Ohm; Impedance: 470 Ohm; DatasheetVersion: ver 2, Aug-2009; PackageVersion: 2009; PackageReference: SMD-0603; PackageDescription: Chip Inductor, 2-Leads, Body 1.6 x 0.8 mm; ComponentLink1Description: Manufacturer URL; ComponentLink1URL: http://www.we-online.com; ComponentLink2Description: Datasheet; ComponentLink2URL: http://www.we-online.de/katalog/media/pdf/742863147.pdf
footprint SMD-0603 (Chip Inductor, 2-Leads, Body 1.6x0.8x0.95 mm)
pins: 1, 2

## 742863160
designator L?
SMD EMI Suppression Ferrite Bead WE-CBF HF, Z = 600 Ohm; Impedance: 600 Ohm; DatasheetVersion: ver 2, Aug-2009; PackageVersion: 2009; PackageReference: SMD-0603; PackageDescription: Chip Inductor, 2-Leads, Body 1.6 x 0.8 mm; ComponentLink1Description: Manufacturer URL; ComponentLink1URL: http://www.we-online.com; ComponentLink2Description: Datasheet; ComponentLink2URL: http://www.we-online.de/katalog/media/pdf/742863160.pdf
footprint SMD-0603 (Chip Inductor, 2-Leads, Body 1.6x0.8x0.95 mm)
pins: 1, 2

## 7427920415
designator L?
SMD EMI Suppression Ferrite Bead WE-CBF, Z = 600 Ohm; Impedance: 600 Ohm; DatasheetVersion: Dec-2005; PackageVersion: 2005; PackageReference: SMD-0805; PackageDescription: Chip Inductor, 2-Leads, Body 2.0 x 1.2 mm; ComponentLink1Description: Manufacturer URL; ComponentLink1URL: http://www.we-online.com; ComponentLink2Description: Datasheet; ComponentLink2URL: http://www.we-online.de/katalog/media/pdf/7427920415.pdf
footprint SMD-0805 (Chip Inductor, 2-Leads, Body 2.0x1.2x1.1 mm)
pins: 1, 2

## 7427927110
designator L?
SMD EMI Suppression Ferrite Bead WE-CBF, Z = 10 Ohm; Impedance: 10 Ohm; DatasheetVersion: ver 1, Jul-2009; PackageVersion: 2009; PackageReference: SMD-0402; PackageDescription: Chip Inductor, 2-Leads, Body 1.0 x 0.5 mm; ComponentLink1Description: Manufacturer URL; ComponentLink1URL: http://www.we-online.com; ComponentLink2Description: Datasheet; ComponentLink2URL: http://www.we-online.de/katalog/media/pdf/7427927110.pdf
footprint SMD-0402 (Chip Inductor, 2-Leads, Body 1.0x0.5x0.6 mm)
pins: 1, 2

## 7427927112
designator L?
SMD EMI Suppression Ferrite Bead WE-CBF, Z = 120 Ohm; Impedance: 120 Ohm; DatasheetVersion: ver 1, Jul-2009; PackageVersion: 2009; PackageReference: SMD-0402; PackageDescription: Chip Inductor, 2-Leads, Body 1.0 x 0.5 mm; ComponentLink1Description: Manufacturer URL; ComponentLink1URL: http://www.we-online.com; ComponentLink2Description: Datasheet; ComponentLink2URL: http://www.we-online.de/katalog/media/pdf/7427927112.pdf
footprint SMD-0402 (Chip Inductor, 2-Leads, Body 1.0x0.5x0.6 mm)
pins: 1, 2

## 7427927115
designator L?
SMD EMI Suppression Ferrite Bead WE-CBF, Z = 150 Ohm; Impedance: 150 Ohm; DatasheetVersion: ver 1, Jul-2009; PackageVersion: 2009; PackageReference: SMD-0402; PackageDescription: Chip Inductor, 2-Leads, Body 1.0 x 0.5 mm; ComponentLink1Description: Manufacturer URL; ComponentLink1URL: http://www.we-online.com; ComponentLink2Description: Datasheet; ComponentLink2URL: http://www.we-online.de/katalog/media/pdf/7427927115.pdf
footprint SMD-0402 (Chip Inductor, 2-Leads, Body 1.0x0.5x0.6 mm)
pins: 1, 2

## 7427927121
designator L?
SMD EMI Suppression Ferrite Bead WE-CBF, Z = 220 Ohm; Impedance: 220 Ohm; DatasheetVersion: ver 1, Jul-2009; PackageVersion: 2009; PackageReference: SMD-0402; PackageDescription: Chip Inductor, 2-Leads, Body 1.0 x 0.5 mm; ComponentLink1Description: Manufacturer URL; ComponentLink1URL: http://www.we-online.com; ComponentLink2Description: Datasheet; ComponentLink2URL: http://www.we-online.de/katalog/media/pdf/7427927121.pdf
footprint SMD-0402 (Chip Inductor, 2-Leads, Body 1.0x0.5x0.6 mm)
pins: 1, 2

## 7427927130
designator L?
SMD EMI Suppression Ferrite Bead WE-CBF, Z = 30 Ohm; Impedance: 30 Ohm; DatasheetVersion: ver 1, Jul-2009; PackageVersion: 2009; PackageReference: SMD-0402; PackageDescription: Chip Inductor, 2-Leads, Body 1.0 x 0.5 mm; ComponentLink1Description: Manufacturer URL; ComponentLink1URL: http://www.we-online.com; ComponentLink2Description: Datasheet; ComponentLink2URL: http://www.we-online.de/katalog/media/pdf/7427927130.pdf
footprint SMD-0402 (Chip Inductor, 2-Leads, Body 1.0x0.5x0.6 mm)
pins: 1, 2

## 7427927140
designator L?
SMD EMI Suppression Ferrite Bead WE-CBF, Z = 47 Ohm; Impedance: 47 Ohm; DatasheetVersion: ver 1, Jul-2009; PackageVersion: 2009; PackageReference: SMD-0402; PackageDescription: Chip Inductor, 2-Leads, Body 1.0 x 0.5 mm; ComponentLink1Description: Manufacturer URL; ComponentLink1URL: http://www.we-online.com; ComponentLink2Description: Datasheet; ComponentLink2URL: http://www.we-online.de/katalog/media/pdf/7427927140.pdf
footprint SMD-0402 (Chip Inductor, 2-Leads, Body 1.0x0.5x0.6 mm)
pins: 1, 2

## 7427927141
designator L?
SMD EMI Suppression Ferrite Bead WE-CBF, Z = 470 Ohm; Impedance: 470 Ohm; DatasheetVersion: ver 1, Jul-2009; PackageVersion: 2009; PackageReference: SMD-0402; PackageDescription: Chip Inductor, 2-Leads, Body 1.0 x 0.5 mm; ComponentLink1Description: Manufacturer URL; ComponentLink1URL: http://www.we-online.com; ComponentLink2Description: Datasheet; ComponentLink2URL: http://www.we-online.de/katalog/media/pdf/7427927141.pdf
footprint SMD-0402 (Chip Inductor, 2-Leads, Body 1.0x0.5x0.6 mm)
pins: 1, 2

## 7427927160
designator L?
SMD EMI Suppression Ferrite Bead WE-CBF, Z = 60 Ohm; Impedance: 60 Ohm; DatasheetVersion: ver 1, Jul-2009; PackageVersion: 2009; PackageReference: SMD-0402; PackageDescription: Chip Inductor, 2-Leads, Body 1.0 x 0.5 mm; ComponentLink1Description: Manufacturer URL; ComponentLink1URL: http://www.we-online.com; ComponentLink2Description: Datasheet; ComponentLink2URL: http://www.we-online.de/katalog/media/pdf/7427927160.pdf
footprint SMD-0402 (Chip Inductor, 2-Leads, Body 1.0x0.5x0.6 mm)
pins: 1, 2

## 7427927161
designator L?
SMD EMI Suppression Ferrite Bead WE-CBF, Z = 600 Ohm; Impedance: 600 Ohm; DatasheetVersion: ver 1, Jul-2009; PackageVersion: 2009; PackageReference: SMD-0402; PackageDescription: Chip Inductor, 2-Leads, Body 1.0 x 0.5 mm; ComponentLink1Description: Manufacturer URL; ComponentLink1URL: http://www.we-online.com; ComponentLink2Description: Datasheet; ComponentLink2URL: http://www.we-online.de/katalog/media/pdf/7427927161.pdf
footprint SMD-0402 (Chip Inductor, 2-Leads, Body 1.0x0.5x0.6 mm)
pins: 1, 2

## 7427927170
designator L?
SMD EMI Suppression Ferrite Bead WE-CBF, Z = 75 Ohm; Impedance: 75 Ohm; DatasheetVersion: ver 1, Jul-2009; PackageVersion: 2009; PackageReference: SMD-0402; PackageDescription: Chip Inductor, 2-Leads, Body 1.0 x 0.5 mm; ComponentLink1Description: Manufacturer URL; ComponentLink1URL: http://www.we-online.com; ComponentLink2Description: Datasheet; ComponentLink2URL: http://www.we-online.de/katalog/media/pdf/7427927170.pdf
footprint SMD-0402 (Chip Inductor, 2-Leads, Body 1.0x0.5x0.6 mm)
pins: 1, 2

## 7427927218
designator L?
SMD EMI Suppression Ferrite Bead WE-CBF, Z = 180 Ohm; Impedance: 180 Ohm; DatasheetVersion: ver 1, Jul-2009; PackageVersion: 2009; PackageReference: SMD-0402; PackageDescription: Chip Inductor, 2-Leads, Body 1.0 x 0.5 mm; ComponentLink1Description: Manufacturer URL; ComponentLink1URL: http://www.we-online.com; ComponentLink2Description: Datasheet; ComponentLink2URL: http://www.we-online.de/katalog/media/pdf/7427927218.pdf
footprint SMD-0402 (Chip Inductor, 2-Leads, Body 1.0x0.5x0.6 mm)
pins: 1, 2

## 7427927241
designator L?
SMD EMI Suppression Ferrite Bead WE-CBF, Z = 470 Ohm; Impedance: 470 Ohm; DatasheetVersion: ver 1, Jul-2009; PackageVersion: 2009; PackageReference: SMD-0402; PackageDescription: Chip Inductor, 2-Leads, Body 1.0 x 0.5 mm; ComponentLink1Description: Manufacturer URL; ComponentLink1URL: http://www.we-online.com; ComponentLink2Description: Datasheet; ComponentLink2URL: http://www.we-online.de/katalog/media/pdf/7427927241.pdf
footprint SMD-0402 (Chip Inductor, 2-Leads, Body 1.0x0.5x0.6 mm)
pins: 1, 2

## 7427927261
designator L?
SMD EMI Suppression Ferrite Bead WE-CBF, Z = 600 Ohm; Impedance: 600 Ohm; DatasheetVersion: ver 1, Jul-2009; PackageVersion: 2009; PackageReference: SMD-0402; PackageDescription: Chip Inductor, 2-Leads, Body 1.0 x 0.5 mm; ComponentLink1Description: Manufacturer URL; ComponentLink1URL: http://www.we-online.com; ComponentLink2Description: Datasheet; ComponentLink2URL: http://www.we-online.de/katalog/media/pdf/7427927261.pdf
footprint SMD-0402 (Chip Inductor, 2-Leads, Body 1.0x0.5x0.6 mm)
pins: 1, 2

## 7427927280
designator L?
SMD EMI Suppression Ferrite Bead WE-CBF, Z = 80 Ohm; Impedance: 80 Ohm; DatasheetVersion: ver 1, Jul-2009; PackageVersion: 2009; PackageReference: SMD-0402; PackageDescription: Chip Inductor, 2-Leads, Body 1.0 x 0.5 mm; ComponentLink1Description: Manufacturer URL; ComponentLink1URL: http://www.we-online.com; ComponentLink2Description: Datasheet; ComponentLink2URL: http://www.we-online.de/katalog/media/pdf/7427927280.pdf
footprint SMD-0402 (Chip Inductor, 2-Leads, Body 1.0x0.5x0.6 mm)
pins: 1, 2

## 7427927281
designator L?
SMD EMI Suppression Ferrite Bead WE-CBF, Z = 800 Ohm; Impedance: 800 Ohm; DatasheetVersion: ver 1, Jul-2009; PackageVersion: 2009; PackageReference: SMD-0402; PackageDescription: Chip Inductor, 2-Leads, Body 1.0 x 0.5 mm; ComponentLink1Description: Manufacturer URL; ComponentLink1URL: http://www.we-online.com; ComponentLink2Description: Datasheet; ComponentLink2URL: http://www.we-online.de/katalog/media/pdf/7427927281.pdf
footprint SMD-0402 (Chip Inductor, 2-Leads, Body 1.0x0.5x0.6 mm)
pins: 1, 2

## 7427927291
designator L?
SMD EMI Suppression Ferrite Bead WE-CBF, Z = 600 Ohm; Impedance: 600 Ohm; DatasheetVersion: ver 1, Jul-2009; PackageVersion: 2009; PackageReference: SMD-0402; PackageDescription: Chip Inductor, 2-Leads, Body 1.0 x 0.5 mm; ComponentLink1Description: Manufacturer URL; ComponentLink1URL: http://www.we-online.com; ComponentLink2Description: Datasheet; ComponentLink2URL: http://www.we-online.de/katalog/media/pdf/7427927291.pdf
footprint SMD-0402 (Chip Inductor, 2-Leads, Body 1.0x0.5x0.6 mm)
pins: 1, 2